# EAGLE library part TC1427COA (library 04_IC)
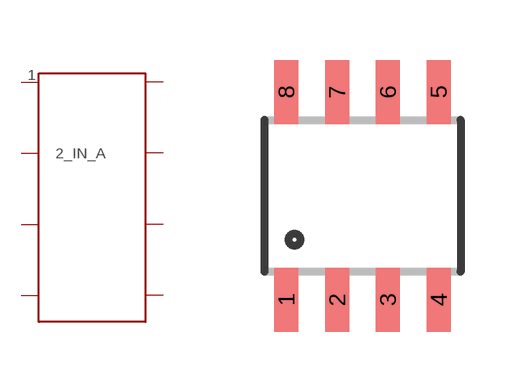
[diagram p2: symbol with the pads of SOIC8; footprint SOIC8]

Designator prefix -

## TC1427COA  [SOIC8]
1  1_NC
2  2_IN_A
3  3_GND
4  4_IN_B
5  5_OUT_B
6  6_VDD
7  7_OUT_A
8  8_NC

## Footprint SOIC8 (pad centres in mm)
smd 0.6 x 1.6: 1 -1.905,-2.6; 2 -0.635,-2.6; 3 0.635,-2.6; 4 1.905,-2.6; 5 1.905,2.6; 6 0.635,2.6; 7 -0.635,2.6; 8 -1.905,2.6